# Altium integrated library ERJU06J102V.IntLib: 1 symbol
Pins are listed as number, name and electrical type; pins without a type are passive.

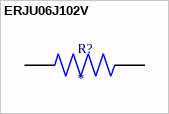
[diagram p0: symbol ERJU06J102V]

## ERJU06J102V
designator R?
MP: ERJU06J102V; Availability: Unavailable; Value: *; Price: None; Package: None
footprint RES_ERJU06J102V
pins: 1, 2